# Altium schematic symbol library FM24V02A-G.SchLib: 1 symbol
Pins are listed as number, name and electrical type; pins without a type are passive.

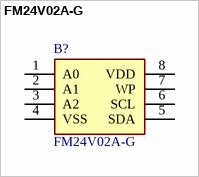
[diagram p0: symbol FM24V02A-G]

## FM24V02A-G
designator B?
Cypress Semiconductor FM24V02A-G Serial-I2C FRAM Memory, 256kbit, 2  3.6 V SOIC 8-Pin; Manufacturer_Name: Infineon; Geometry.Height: 1.727mm; Mouser Part Number: 727-FM24V02A-G; Mouser Price/Stock: https://www.mouser.co.uk/ProductDetail/Cypress-Semiconductor/FM24V02A-G/?qs=ILgNtqsyH23xixHZ0uhhNg%3D%3D; Manufacturer_Part_Number: FM24V02A-G; Datasheet Link: https://ms.componentsearchengine.com/Datasheets/2/FM24V02A-G.pdf
footprint SOIC127P602X173-8N
pins: 1 A0, 2 A1, 3 A2, 4 VSS, 5 SDA, 6 SCL, 7 WP, 8 VDD